# Altium footprint library adafruit.PCBLIB: 643 footprints (part 17 of 41)
Each footprint in its own frame and in the unit in brackets; x right, y up, seen from the top. Pads: shape width x height; smd on the part's side, far side on the other; paste and mask are expansions set on the pad; w line width, h text height; cw(c..) or ccw(c..) is an arc to the next point about the centre after c.
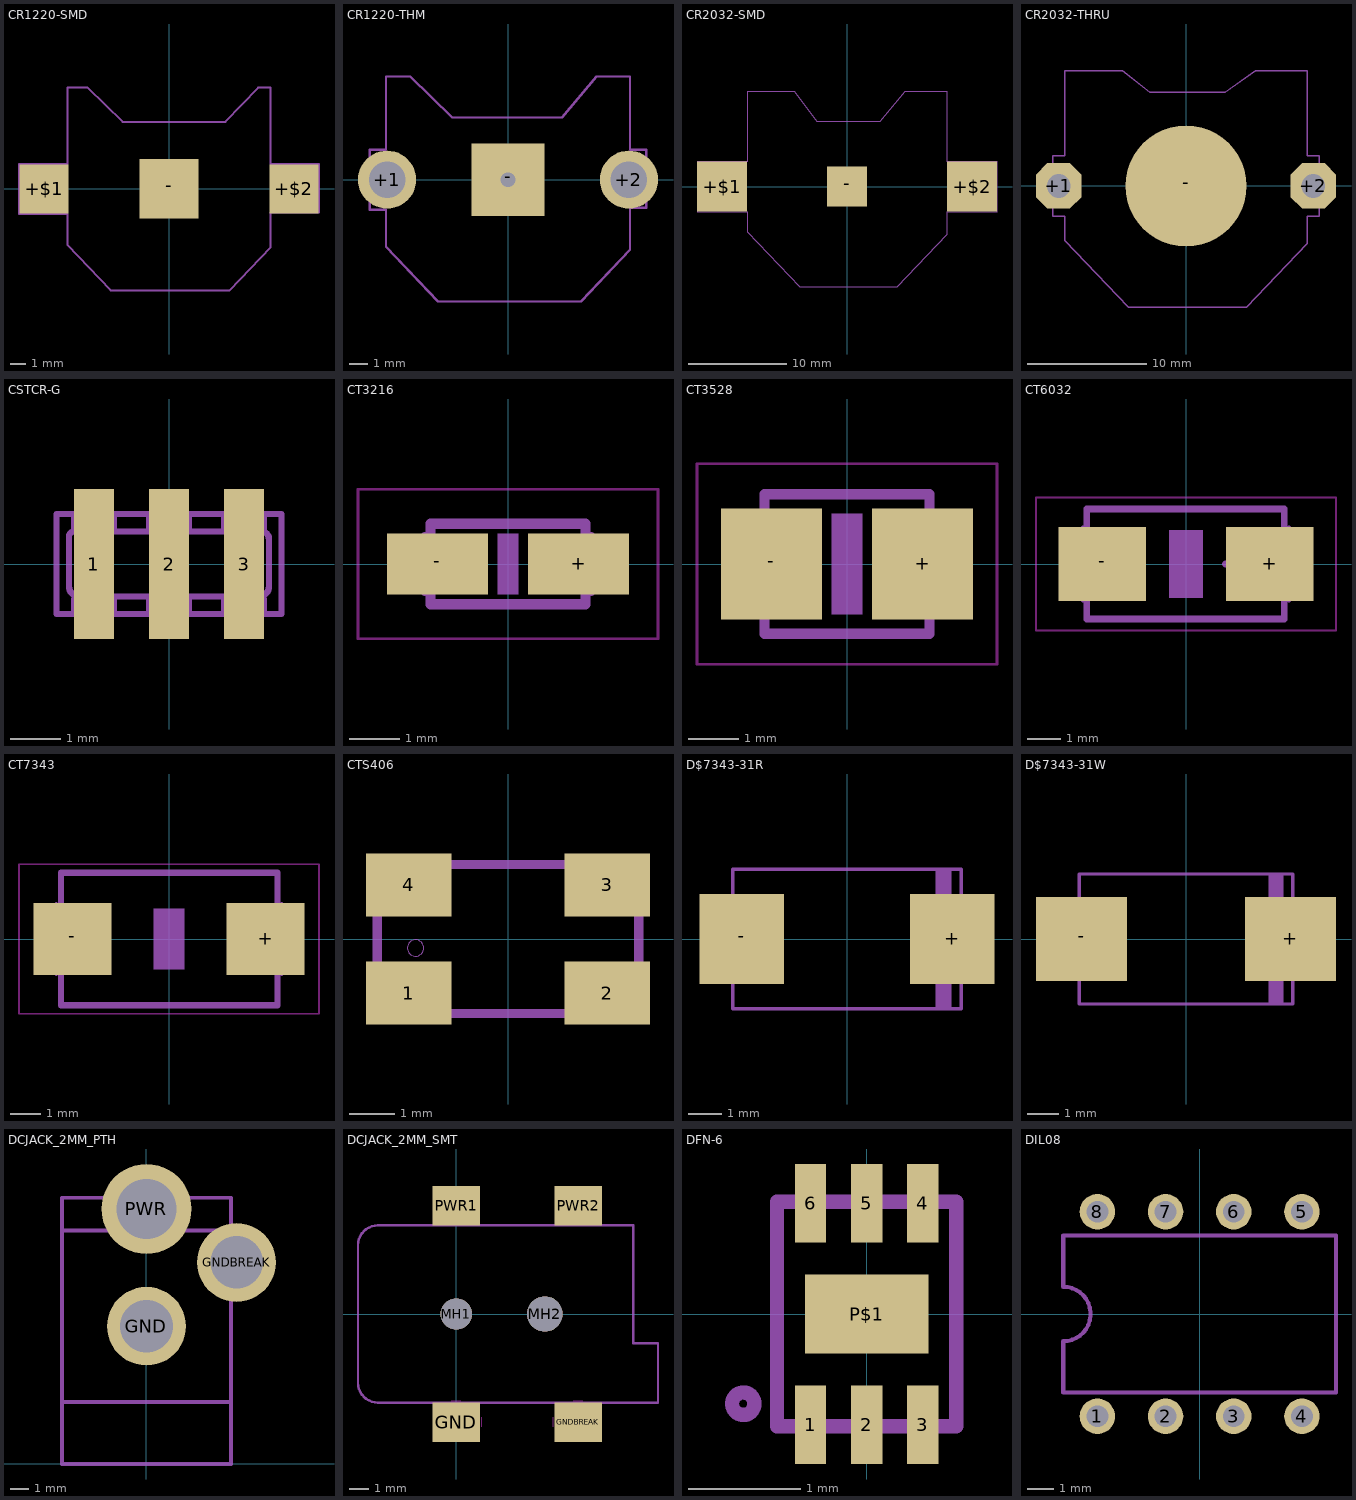
[diagram p16: the footprints below, top view; thin cyan lines are the x and y axes]

## CR1220-SMD [mil]
pads (3):
  rect 125.98x125.98 smd: +$1(-322.83,0) +$2(322.83,0)
  rect 153.54x153.54 smd: -(0,0)
tPlace:
  circle w5: c-324.96,0 r36.06
  circle w5: c330.71,6.06 r36.06
  lines w5: -387.4,-64.57 -262.2,-64.57 -262.2,-144.57 -150.63,-262.2 156.69,-262.2 262.2,-150.63 262.2,-60.63 387.4,-60.63 387.4,64.57 262.2,64.57 262.2,261.89 230,261.89 145.75,173.39 -120,173.39 -210,261.89 -262.2,261.89 -262.2,64.57 -387.4,64.57 -387.4,-64.57

## CR1220-THM [mil]
pads (3):
  round 125 hole 78.74: +1(-260,0) +2(260,0)
  rect 156x156 / inner round 144.13 / far side rect 156x156 hole 31.5: -(0,0)
tPlace:
  lines w5: -297.4,-64.57 -262.2,-64.57 -262.2,-144.57 -150.63,-262.2 156.69,-262.2 262.2,-150.63 262.2,-60.63 297.4,-60.63 297.4,64.57 262.2,64.57 262.2,221.89 190,221.89 115.75,133.39 -120,133.39 -210,221.89 -262.2,221.89 -262.2,64.57 -297.4,64.57 -297.4,-64.57

## CR2032-SMD [mil]
pads (3):
  rect 200x200 smd: +$1(-500,0) +$2(500,0)
  rect 160x160 smd: -(0,0)
Top Solder:
  region: -354.33,0 -354.33,17.41 -350.92,52.05 -344.13,86.2 -334.02,119.51 -320.7,151.68 -304.29,182.38 -284.94,211.33 -262.86,238.24 -238.24,262.86 -211.33,284.94 -182.38,304.29 -151.68,320.7 -119.51,334.02 -86.2,344.13 -52.05,350.92 -17.41,354.33 0,354.33 17.41,354.33 52.05,350.92 86.2,344.13 119.51,334.02 151.68,320.7 182.38,304.29 211.33,284.94 238.24,262.86 262.86,238.24 284.94,211.33 304.29,182.38 320.7,151.68 334.02,119.51 344.13,86.2 350.92,52.05 354.33,17.41 354.33,0 354.33,-17.41 350.92,-52.05 344.13,-86.2 334.02,-119.51 320.7,-151.68 304.29,-182.38 284.94,-211.33 262.86,-238.24 238.24,-262.86 211.33,-284.94 182.38,-304.29 151.68,-320.7 119.51,-334.02 86.2,-344.13 52.05,-350.92 17.41,-354.33 0,-354.33 -17.41,-354.33 -52.05,-350.92 -86.2,-344.13 -119.51,-334.02 -151.68,-320.7 -182.38,-304.29 -211.33,-284.94 -238.24,-262.86 -262.86,-238.24 -284.94,-211.33 -304.29,-182.38 -320.7,-151.68 -334.02,-119.51 -344.13,-86.2 -350.92,-52.05 -354.33,-17.41 -354.33,0
tPlace:
  circle w5: c-510,0 r36.06
  circle w5: c500,10 r36.06
  lines w5: -600,-100 -400,-100 -400,-180 -190,-400 200,-400 400,-190 400,-100 600,-100 600,100 400,100 400,380 230,380 130,260 -120,260 -210,380 -400,380 -400,100 -600,100 -600,-100

## CR2032-THRU [mil]
pads (3):
  oct 150x150 / inner round 138.58 / far side oct 150x150 hole 78.74: +1(-420,0) +2(420,0)
  rrect100% 400x400 smd: -(0,0)
Top Solder:
  region: -300,0 -300,-14.74 -297.11,-44.07 -291.36,-72.98 -282.8,-101.19 -271.52,-128.42 -257.63,-154.42 -241.25,-178.93 -222.55,-201.71 -201.71,-222.55 -178.93,-241.25 -154.42,-257.63 -128.42,-271.52 -101.19,-282.8 -72.98,-291.36 -44.07,-297.11 -14.74,-300 0,-300 14.74,-300 44.07,-297.11 72.98,-291.36 101.19,-282.8 128.42,-271.52 154.42,-257.63 178.93,-241.25 201.71,-222.55 222.55,-201.71 241.25,-178.93 257.63,-154.42 271.52,-128.42 282.8,-101.19 291.36,-72.98 297.11,-44.07 300,-14.74 300,0 300,14.74 297.11,44.07 291.36,72.98 282.8,101.19 271.52,128.42 257.63,154.42 241.25,178.93 222.55,201.71 201.71,222.55 178.93,241.25 154.42,257.63 128.42,271.52 101.19,282.8 72.98,291.36 44.07,297.11 14.74,300 0,300 -14.74,300 -44.07,297.11 -72.98,291.36 -101.19,282.8 -128.42,271.52 -154.42,257.63 -178.93,241.25 -201.71,222.55 -222.55,201.71 -241.25,178.93 -257.63,154.42 -271.52,128.42 -282.8,101.19 -291.36,72.98 -297.11,44.07 -300,14.74 -300,0
tPlace:
  lines w5: -440,-100 -400,-100 -400,-180 -190,-400 200,-400 400,-190 400,-100 440,-100 440,100 400,100 400,380 230,380 130,310 -120,310 -210,380 -400,380 -400,100 -440,100 -440,-100

## CSTCR-G [mil]
pads (3):
  rect 31.5x118.11 smd: 1(-59.06,0) 2(0,0) 3(59.06,0)
tPlace:
  lines w5: -74.8,-37.4 -74.8,-27.56 ; -74.8,27.56 -74.8,39.37 ; -43.31,-37.4 -43.31,-27.56 ; -15.75,-37.4 -15.75,-25.59 ; -15.75,27.56 -15.75,39.37 ; 15.75,-37.4 15.75,-27.56 ; 15.75,27.56 15.75,39.37 ; 43.31,-37.4 43.31,-27.56 ; 43.31,27.56 43.31,39.37 ; 74.8,-37.4 74.8,-27.56 ; 74.8,27.56 74.8,39.37 ; -74.8,39.37 -88.58,39.37 -88.58,-39.37 -66.93,-39.37 cw(c-59.05,-39.37) -51.18,-39.37 -7.87,-39.37 cw(c0,-39.37) 7.87,-39.37 51.18,-39.37 cw(c59.05,-39.37) 66.93,-39.37 88.58,-39.37 88.58,39.37 74.8,39.37 ; -74.8,39.37 -66.93,39.37 ccw(c-59.05,39.37) -51.18,39.37 -43.31,39.37 ; -43.31,25.59 72.83,25.59 cw(c72.83,19.68) 78.74,19.69 78.74,-17.72 cw(c70.87,-17.72) 70.87,-25.59 -15.75,-25.59 ; -43.31,25.59 -74.8,25.59 ccw(c-74.8,21.65) -78.74,21.65 -78.74,-17.72 ccw(c-70.87,-17.72) -70.87,-25.59 -15.75,-25.59 ; -43.31,25.59 -43.31,39.37 ; -43.31,39.37 -15.75,39.37 ; -15.75,39.37 -7.87,39.37 ccw(c0,39.37) 7.87,39.37 15.75,39.37 ; 15.75,39.37 43.31,39.37 ; 43.31,39.37 51.18,39.37 ccw(c59.05,39.37) 66.93,39.37 74.8,39.37

## CT3216 [mm]
pads (2):
  rect 2x1.2 smd: +(1.4,0) -(-1.4,0)
Top keep-out:
  lines w0.051: -2.973,-1.483 2.973,-1.483 2.973,1.483 -2.973,1.483 -2.973,-1.483
tDocu:
  lines w0.152: -1.651,-0.559 -1.651,0.559 ; 1.651,-0.559 1.651,0.559
  lines w0.203: -1.535,-0.798 -1.535,0.798 ; 0.7,0 1.26,0 ; 0.97,-0.26 0.97,0.3 ; 1.535,-0.798 1.535,0.798
tPlace:
  lines w0.203: -1.535,-0.798 1.535,-0.798 ; -1.535,0.798 1.535,0.798
tGlue:
  region: -0.2,-0.6 -0.2,0.6 0.2,0.6 0.2,-0.6

## CT3528 [mm]
pads (2):
  rect 2x2.2 smd: +(1.5,0) -(-1.5,0)
Top keep-out:
  lines w0.051: -2.973,-1.983 2.973,-1.983 2.973,1.983 -2.973,1.983 -2.973,-1.983
tDocu:
  lines w0.152: -1.778,-1.016 -1.778,1.016 ; 1.778,-1.016 1.778,1.016
  lines w0.203: -1.637,-1.383 -1.637,1.383 ; 0.68,0 1.31,0 ; 1,-0.3 1,0.33 ; 1.637,-1.383 1.637,1.383
tPlace:
  lines w0.203: -1.637,-1.383 1.637,-1.383 ; -1.637,1.383 1.637,1.383
tGlue:
  region: -0.3,-1 -0.3,1 0.3,1 0.3,-1

## CT6032 [mil]
pads (2):
  rect 102.36x86.61 smd: +(98.43,0) -(-98.43,0)
Top keep-out:
  lines w2: -176.1,-78.07 176.1,-78.07 176.1,78.07 -176.1,78.07 -176.1,-78.07
tDocu:
  lines w6: -120.98,-42.01 -120.98,42.01 ; 120.98,-42.01 120.98,42.01
  lines w8: -116.42,-64.45 -116.42,64.45 ; 46.46,0 96.46,0 ; 70.87,-24.8 70.87,25.2 ; 115.43,-64.45 115.43,64.45
tPlace:
  lines w8: -116.42,-64.45 115.43,-64.45 ; -116.42,64.45 115.43,64.45
tGlue:
  region: -19.69,-39.37 -19.69,39.37 19.69,39.37 19.69,-39.37

## CT7343 [mil]
pads (2):
  rect 102.36x94.49 smd: +(125.98,0) -(-125.98,0)
Top keep-out:
  lines w2: -195.79,-97.76 195.79,-97.76 195.79,97.76 -195.79,97.76 -195.79,-97.76
tDocu:
  lines w6: -147.01,-45 -147.01,45 ; 147.01,-45 147.01,45
  lines w8: -141.02,-86.42 -141.02,86.42 ; 80.32,0 121.65,0 ; 100.39,-20.47 100.39,20.47 ; 141.42,-86.42 141.42,86.42
tPlace:
  lines w8: -141.02,-63.58 -141.02,-86.42 141.42,-86.42 141.42,-63.58 ; -141.02,63.58 -141.02,86.42 141.42,86.42 141.42,63.58
tGlue:
  region: -19.69,-39.37 -19.69,39.37 19.69,39.37 19.69,-39.37

## CTS406 [mil]
pads (4):
  rect 74.8x55.12 smd: 1(-86.61,-47.24) 2(86.61,-47.24) 3(86.61,47.24) 4(-86.61,47.24)
tDocu:
  lines w8: -114.17,-11.81 -114.17,-48.23 cw(c-114.24,-65.03) -97.44,-64.96 -41.34,-64.96 ; -114.17,11.81 -114.17,48.23 ccw(c-114.24,65.03) -97.44,64.96 -41.34,64.96 ; 41.34,-64.96 97.44,-64.96 cw(c114.24,-65.03) 114.17,-48.23 114.17,-11.81 ; 41.34,64.96 97.44,64.96 ccw(c114.24,65.03) 114.17,48.23 114.17,11.81
tPlace:
  circle w0: c-80.71,-7.87 r7.17
  lines w8: -114.17,-11.81 -114.17,11.81 ; -41.34,-64.96 41.34,-64.96 ; -41.34,64.96 41.34,64.96 ; 114.17,-11.81 114.17,11.81

## D$7343-31R [mil]
pads (2):
  rect 100.39x106.3 smd: +(125,0) -(-125,0)
tDocu:
  region: -143.7,-47.24 -143.7,47.24 -137.8,47.24 -137.8,-47.24
  region: 137.8,-47.24 137.8,47.24 143.7,47.24 143.7,-47.24
  region: 105.32,-83.66 105.32,83.66 124.02,83.66 124.02,-83.66
  lines w4: -135.83,-82.68 135.83,-82.68 135.83,82.68 -135.83,82.68 -135.83,-82.68

## D$7343-31W [mil]
pads (2):
  rect 116.14x106.3 smd: +(132.87,0) -(-132.87,0)
tDocu:
  region: -143.7,-47.24 -143.7,47.24 -137.8,47.24 -137.8,-47.24
  region: 137.8,-47.24 137.8,47.24 143.7,47.24 143.7,-47.24
  region: 105.32,-83.66 105.32,83.66 124.02,83.66 124.02,-83.66
  lines w4: -135.83,-82.68 135.83,-82.68 135.83,82.68 -135.83,82.68 -135.83,-82.68

## DCJACK_2MM_PTH [mm]
pads (3):
  round 4.2 hole 2.8: GND(0,7.35) GNDBREAK(4.8,10.75)
  round 4.8 hole 3.2: PWR(0,13.6)
tDocu:
  lines w0.203: 2.4,14.2 2.65,14.2 ; 4.4,12.45 -4.5,12.45 ; 4.5,8.4 4.5,8.35 ; -4.5,3.3 -4.5,0 4.5,0 4.5,3.3 ; -4.5,3.3 4.5,3.3 ; -4.5,3.3 -4.5,12.45 ; -4.5,12.45 -4.5,14.2 2.65,14.2 ; 2.65,14.2 4.5,14.2 4.5,8.35 ; 4.5,3.3 4.5,8.35
  text "DC 2.0/2.1" at -3.302,1.27 h1.26
tPlace:
  lines w0.203: -2.6,14.2 -4.5,14.2 -4.5,3.3 4.5,3.3 4.5,8.4 ; 2.4,14.2 4.5,14.2 4.5,13.1

## DCJACK_2MM_SMT [mm]
pads (6):
  rect 2.4x2 smd: GND(0,-5.5) GNDBREAK(6.2,-5.5) PWR1(0,5.5) PWR2(6.2,5.5)
  round 1.6 hole 1.6 unplated: MH1(0,0)
  round 1.8 hole 1.8 unplated: MH2(4.5,0)
Top keep-out:
  region: 1.27,-5.74 1.27,-5.258 1.295,-5.258 1.295,-5.74
  region: -0.254,-4.42 0.229,-4.42 0.229,-4.445 -0.254,-4.445
  region: 4.902,-5.74 4.902,-5.258 4.928,-5.258 4.928,-5.74
  region: 6.426,-4.445 5.944,-4.445 5.944,-4.42 6.426,-4.42
tDocu:
  lines w0.127: -5,-3.5 -5,3.5 cw(c-4,3.5) -4,4.5 9,4.5 9,-1.492 10.254,-1.492 10.254,-4.5 -4,-4.5 cw(c-4,-3.5) -5,-3.5
tPlace:
  lines w0.127: -1.684,-4.5 -4,-4.5 cw(c-4,-3.5) -5,-3.5 -5,3.5 cw(c-4,3.5) -4,4.5 -1.668,4.5 ; 1.588,-4.5 4.666,-4.5 ; 1.588,4.5 4.682,4.5 ; 7.938,-4.5 10.254,-4.5 10.254,-1.492 9,-1.492 9,4.5 7.938,4.5
  text "+" at 0.762,2.794 h2.2
  text "GND" at -1.016,-3.81 h1.26

## DFN-6 [mil]
pads (7):
  rect 11.02x27.56 smd: 1(-19.69,-38.88) 2(0,-38.88) 3(19.69,-38.88) 4(19.69,38.88) 5(0,38.88) 6(-19.69,38.88)
  rect 43.31x27.56 smd paste+0: P$1(0,0)
Top Paste:
  region: -21.65,3.94 -21.65,13.78 -11.81,13.78 -11.81,3.94
  region: 11.81,13.78 21.65,13.78 21.65,3.94 11.81,3.94
  region: 21.65,-3.94 21.65,-13.78 11.81,-13.78 11.81,-3.94
  region: -11.81,-13.78 -21.65,-13.78 -21.65,-3.94 -11.81,-3.94
  region: 5.91,-3.94 5.91,-13.78 -5.91,-13.78 -5.91,-3.94
  region: -5.91,3.94 -5.91,13.78 5.91,13.78 5.91,3.94
tPlace:
  circle w5: c-43.31,-31.5 r3.94
  lines w5: -31.5,-39.37 31.5,-39.37 31.5,39.37 -31.5,39.37 -31.5,-39.37

## DIL08 [mil]
pads (8):
  round 52 hole 32: 1(-150,-150) 2(-50,-150) 3(50,-150) 4(150,-150) 5(150,150) 6(50,150) 7(-50,150) 8(-150,150)
tPlace:
  lines w6: -200,-115 200,-115 200,115 -200,115 -200,40 cw(c-200,0) -200,-40 -200,-115